# Altium footprint library switches.PcbLib: 6 footprints
Each footprint in its own frame and in the unit in brackets; x right, y up, seen from the top. Pads: shape width x height; smd on the part's side, far side on the other; paste and mask are expansions set on the pad; w line width, h text height; cw(c..) or ccw(c..) is an arc to the next point about the centre after c.
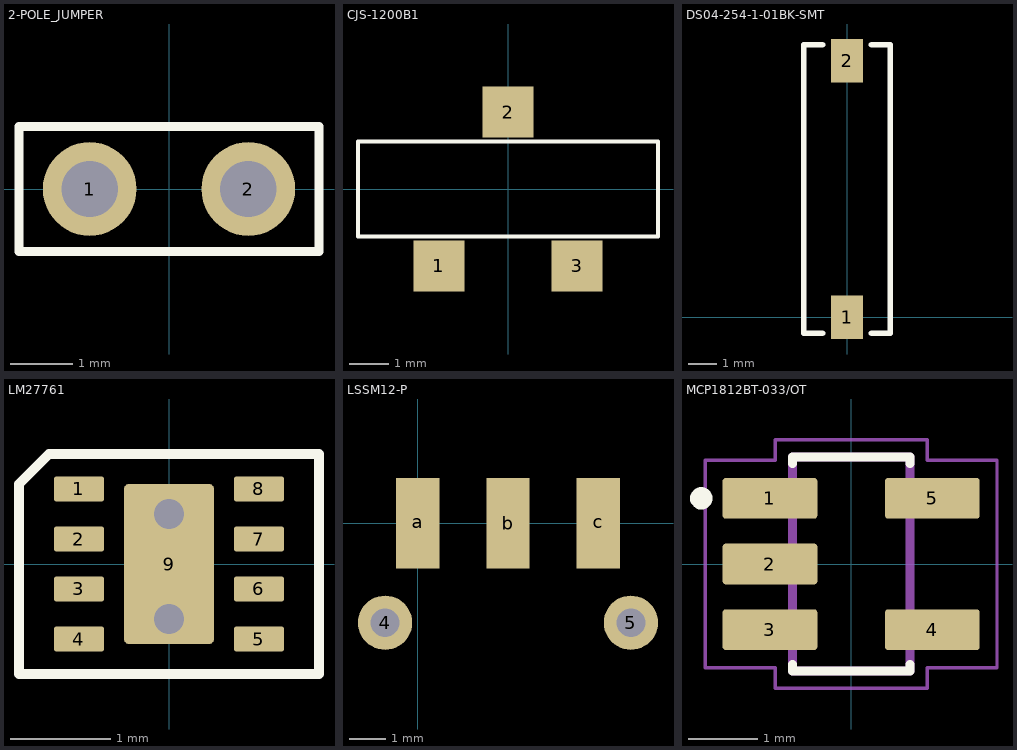
[diagram p0: the footprints below, top view; thin cyan lines are the x and y axes]

## 2-POLE_JUMPER [mm]
pads (2):
  round 1.5 hole 0.9: 1(-1.27,0) 2(1.27,0)
Top Overlay:
  lines w0.15: -2.4,-1 -2.4,1 2.1,1 2.4,1 2.4,-1 2.1,-1 -2.4,-1

## CJS-1200B1 [mm] "3 pt dip switch, diptronics"
pads (3):
  rect 1.3x1.3 smd: 1(-1.75,-1.95) 2(0,1.95) 3(1.75,-1.95)
Top Overlay:
  lines w0.1: -3.8,-1.2 -3.8,1.2 0.7,1.2 3.8,1.2 3.8,0.6 3.8,-0.6 3.8,-1.2 -3.8,-1.2

## DS04-254-1-01BK-SMT [mm] "DIP-Schalter / SIP-Schalter 1 Position, Surface Mount, 2.54 mm Pitch, Slide Actuator"
pads (2):
  rect 1.1x1.5 smd: 1(0,0) 2(0,8.9)
Top Overlay:
  lines w0.2: -0.85,-0.55 -1.5,-0.55 -1.5,9.45 -0.85,9.45 ; 0.85,-0.55 1.5,-0.55 1.5,9.45 0.85,9.45

## LM27761 [mm] "Negative Voltage source -1.5 to -5V"
pads (9):
  rrect20% 0.5x0.25 smd mask+0.07: 1(-0.9,0.75) 2(-0.9,0.25) 3(-0.9,-0.25) 4(-0.9,-0.75) 5(0.9,-0.75) 6(0.9,-0.25) 7(0.9,0.25) 8(0.9,0.75)
  rrect10% 0.9x1.6 smd mask+0.07: 9(0,0)
via 0,-0.55 diameter 0.4 hole 0.3
via 0,0.5 diameter 0.4 hole 0.3
Top Overlay:
  lines w0.1: -1.5,-1.1 -1.5,0.8 -1.2,1.1 1.3,1.1 1.5,1.1 1.5,-1.1 -1.5,-1.1
3D body "DSG0008A.stp": height 0.77, standoff 0, extent -1,-1 1,1

## LSSM12-P [mm] "2 position dip switch, Diptronics"
height 3.5
pads (5):
  round 1.5 hole 0.8: 4(-0.9,-2.75) 5(5.9,-2.75)
  rect 1.2x2.5 smd: a(0,0) b(2.5,0) c(5,0)
3D body: height 3.15, standoff 1.5, extent 0.3,-6.5 1.8,-4.5
3D body: height 3.5, standoff 0, extent -2.25,-4.5 7.25,-1
3D body: height 3.5, standoff 0, extent 2.1,-2.8 2.1,-2.8

## MCP1812BT-033/OT [mm] "LDO, 3V3"
height 2
pads (5):
  rrect15% 1.37x0.59 smd: 1(-1.175,0.95) 2(-1.175,0) 3(-1.175,-0.95) 4(1.175,-0.95) 5(1.175,0.95)
Top Overlay:
  circle w0.2: c-2.169,0.95 r0.062
  lines w0.127: -0.85,-1.45 -0.85,-1.55 0.85,-1.55 0.85,-1.45 ; -0.85,1.45 -0.85,1.55 0.85,1.55 0.85,1.45
Mechanical 13:
  lines w0.127: -0.85,-1.55 0.85,-1.55 0.85,1.55 -0.85,1.55 -0.85,-1.55
Mechanical 15:
  lines w0.05: -2.11,-1.5 -2.11,1.5 -1.1,1.5 -1.1,1.8 1.1,1.8 1.1,1.5 2.11,1.5 2.11,-1.5 1.1,-1.5 1.1,-1.8 -1.1,-1.8 -1.1,-1.5 -2.11,-1.5